# Altium schematic symbol library DIPSwitches.SchLib: 2 symbols
Pins are listed as number, name and electrical type; pins without a type are passive.

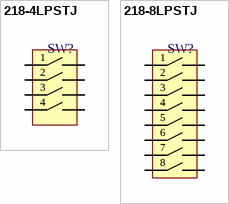
[diagram p0: symbols 218-4LPSTJ to 218-8LPSTJ]

## 218-4LPSTJ
designator SW?  (value not drawn)
SWITCH SLIDE DIP SPST 25MA 24V; Mounted: Yes; Package / Case: 6.25 x 6.05mm; Supplier 1: Digi-Key; Supplier Part Number 1: CT3109-ND; Current: 25mA; Volt: 24V
footprint DIPSWITCH-218LPJ-4 (DIP Switch for CTS 218LPJ serie, 4 swtiches 8 pins.)
pins: 1, 2, 3, 4, 5, 6, 7, 8

## 218-8LPSTJ
designator SW?  (value not drawn)
SWITCH SLIDE DIP SPST 25MA 24V; Mounted: Yes; Package / Case: 11.3 x 6.05mm; Supplier 1: Digi-Key; Supplier Part Number 1: CT3111-ND; Current: 25mA; Volt: 24V
footprint DIPSWITCH-218LPJ-8 (DIP Switch for CTS 218LPJ serie, 8 swtiches 16 pins.)
pins: 1, 2, 3, 4, 5, 6, 7, 8, 9, 10, 11, 12, 13, 14, 15, 16